# EAGLE library part DISP_LCD_3.5IN_320X480_50PIN (library adafruit)
ILI9488 TFT display breakout from buydisplay.com with resistive touchscreen
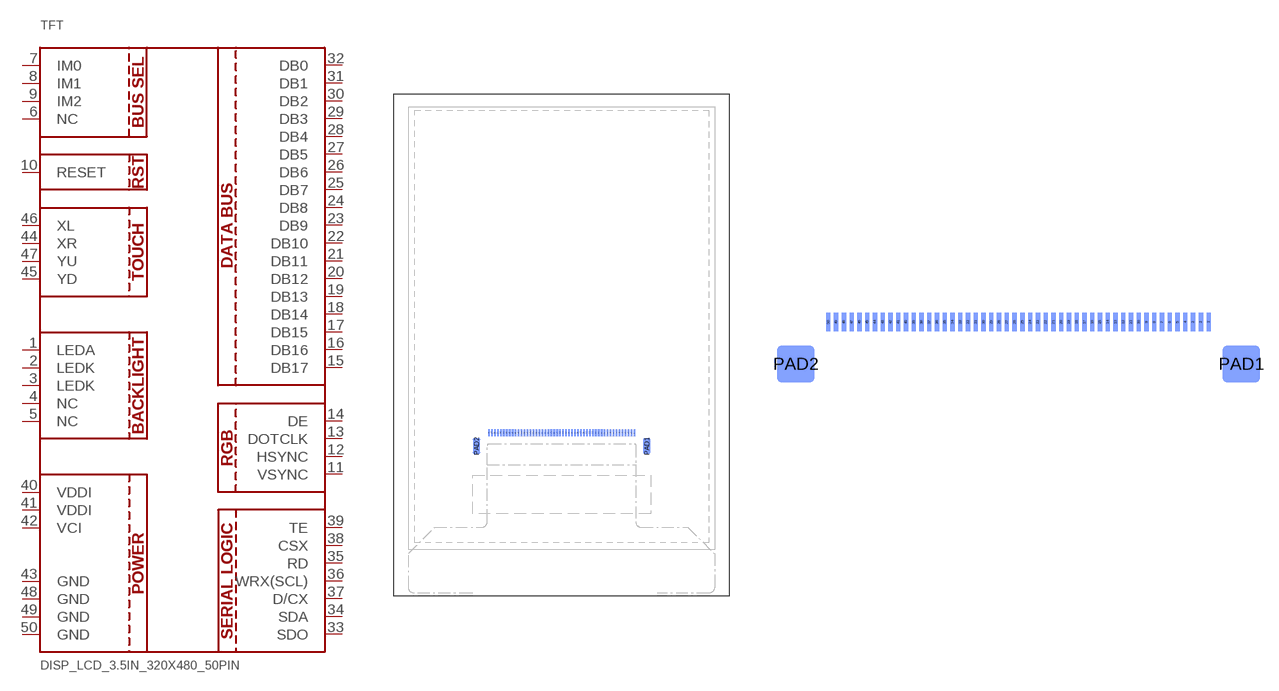
[diagram p119: symbol with the pads of TFT_3.5IN_320X480_50PIN; footprints TFT_3.5IN_320X480_50PIN, TFT_3.5IN_50PIN_CONNECTOR]

Designator prefix TFT

## DISP_LCD_3.5IN_320X480_50PIN  [TFT_3.5IN_320X480_50PIN]
1  LEDA
2  LEDK
3  LEDK
4  NC
5  NC
6  NC
7  IM0
8  IM1
9  IM2
10  RESET
11  VSYNC
12  HSYNC
13  DOTCLK
14  DE
15  DB17
16  DB16
17  DB15
18  DB14
19  DB13
20  DB12
21  DB11
22  DB10
23  DB9
24  DB8
25  DB7
26  DB6
27  DB5
28  DB4
29  DB3
30  DB2
31  DB1
32  DB0
33  SDO
34  SDA
35  RD
36  WRX(SCL)
37  D/CX
38  CSX
39  TE
40  VDDI
41  VDDI
42  VCI
43  GND
44  XR
45  YD
46  XL
47  YU
48  GND
49  GND
50  GND

## DISP_LCD_3.5IN_320X480_50PINCONNECTOR  [TFT_3.5IN_50PIN_CONNECTOR]
Pads as for TFT_3.5IN_320X480_50PIN

## Footprint TFT_3.5IN_320X480_50PIN (pad centres in mm)
smd 0.275 x 1.2 bottom: 1 12.25,-4.81; 2 11.75,-4.81; 3 11.25,-4.81; 4 10.75,-4.81; 5 10.25,-4.81; 6 9.75,-4.81; 7 9.25,-4.81; 8 8.75,-4.81; 9 8.25,-4.81; 10 7.75,-4.81; 11 7.25,-4.81; 12 6.75,-4.81; 13 6.25,-4.81; 14 5.75,-4.81; 15 5.25,-4.81; 16 4.75,-4.81; 17 4.25,-4.81; 18 3.75,-4.81; 19 3.25,-4.81; 20 2.75,-4.81; 21 2.25,-4.81; 22 1.75,-4.81; 23 1.25,-4.81; 24 0.75,-4.81; 25 0.25,-4.81; 26 -0.25,-4.81; 27 -0.75,-4.81; 28 -1.25,-4.81; 29 -1.75,-4.81; 30 -2.25,-4.81; 31 -2.75,-4.81; 32 -3.25,-4.81; 33 -3.75,-4.81; 34 -4.25,-4.81; 35 -4.75,-4.81; 36 -5.25,-4.81; 37 -5.75,-4.81; 38 -6.25,-4.81; 39 -6.75,-4.81; 40 -7.25,-4.81; 41 -7.75,-4.81; 42 -8.25,-4.81; 43 -8.75,-4.81; 44 -9.25,-4.81; 45 -9.75,-4.81; 46 -10.25,-4.81; 47 -10.75,-4.81; 48 -11.25,-4.81; 49 -11.75,-4.81; 50 -12.25,-4.81
smd 1.27 x 2.54 bottom: PAD1 14.35,-7.01; PAD2 -14.35,-7.01

## Footprint TFT_3.5IN_50PIN_CONNECTOR (pad centres in mm)
smd 0.275 x 1.2 bottom: 1 12.25,2.31; 2 11.75,2.31; 3 11.25,2.31; 4 10.75,2.31; 5 10.25,2.31; 6 9.75,2.31; 7 9.25,2.31; 8 8.75,2.31; 9 8.25,2.31; 10 7.75,2.31; 11 7.25,2.31; 12 6.75,2.31; 13 6.25,2.31; 14 5.75,2.31; 15 5.25,2.31; 16 4.75,2.31; 17 4.25,2.31; 18 3.75,2.31; 19 3.25,2.31; 20 2.75,2.31; 21 2.25,2.31; 22 1.75,2.31; 23 1.25,2.31; 24 0.75,2.31; 25 0.25,2.31; 26 -0.25,2.31; 27 -0.75,2.31; 28 -1.25,2.31; 29 -1.75,2.31; 30 -2.25,2.31; 31 -2.75,2.31; 32 -3.25,2.31; 33 -3.75,2.31; 34 -4.25,2.31; 35 -4.75,2.31; 36 -5.25,2.31; 37 -5.75,2.31; 38 -6.25,2.31; 39 -6.75,2.31; 40 -7.25,2.31; 41 -7.75,2.31; 42 -8.25,2.31; 43 -8.75,2.31; 44 -9.25,2.31; 45 -9.75,2.31; 46 -10.25,2.31; 47 -10.75,2.31; 48 -11.25,2.31; 49 -11.75,2.31; 50 -12.25,2.31
smd 2.4 x 2.4 bottom: PAD1 14.35,-0.39; PAD2 -14.35,-0.39